# Altium schematic symbol library SCH - CONNECTORS - MOLEX 43860-0008.SCHLIB: 1 symbol
Pins are listed as number, name and electrical type; pins without a type are passive.

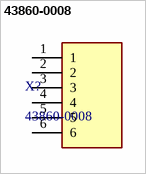
[diagram p0: symbol 43860-0008]

## 43860-0008
designator X?
RJ11 Connector Molex; Datasheet Link: https://www.molex.com/pdm_docs/sd/438600008_sd.pdf; Height: 13.46mm; Manufacturer Name: Molex; Manufacturer Part Number: 43860-0008; Mouser Part Number: 538-43860-0008; Mouser Price/Stock: https://www.mouser.co.uk/ProductDetail/Molex/43860-0008?qs=myiN7WxHr02eCUmwkdp2KQ%3D%3D
pins: 1, 2, 3, 4, 5, 6